# EAGLE library part CR95HF (library BM019)
13.56-MHz multi-protocol contactless transceiver IC Supply voltage: 2.7...5.5V Interfaces: SPI, UART 27.12MHz crystal oscillator
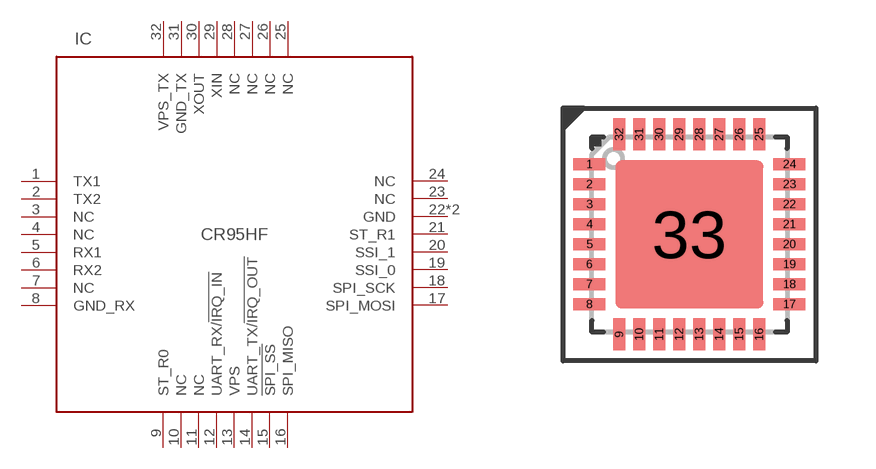
[diagram p0: symbol with the pads of QFN32(5X5); footprint QFN32(5X5)]

Designator prefix IC

## CR95HF  [QFN32(5X5)]
1  TX1
2  TX2
3  NC  nc
4  NC  nc
5  RX1
6  RX2
7  NC  nc
8  GND_RX  pwr
9  ST_R0
10  NC  nc
11  NC  nc
12  UART_RX/!IRQ_IN
13  VPS  pwr
14  UART_TX/!IRQ_OUT
15  !SPI_SS
16  SPI_MISO
17  SPI_MOSI
18  SPI_SCK
19  SSI_0
20  SSI_1
21  ST_R1
22  GND  pwr
23  NC  nc
24  NC  nc
25  NC  nc
26  NC  nc
27  NC  nc
28  NC  nc
29  XIN
30  XOUT
31  GND_TX  pwr
32  VPS_TX  pwr
33  GND  pwr

## Footprint QFN32(5X5) (pad centres in mm)
smd 0.8 x 0.3: 1 -2.5,1.75; 2 -2.5,1.25; 3 -2.5,0.75; 4 -2.5,0.25; 5 -2.5,-0.25; 6 -2.5,-0.75; 7 -2.5,-1.25; 8 -2.5,-1.75; 17 2.5,-1.75; 18 2.5,-1.25; 19 2.5,-0.75; 20 2.5,-0.25; 21 2.5,0.25; 22 2.5,0.75; 23 2.5,1.25; 24 2.5,1.75
smd 0.3 x 0.8: 9 -1.75,-2.5; 10 -1.25,-2.5; 11 -0.75,-2.5; 12 -0.25,-2.5; 13 0.25,-2.5; 14 0.75,-2.5; 15 1.25,-2.5; 16 1.75,-2.5; 25 1.75,2.5; 26 1.25,2.5; 27 0.75,2.5; 28 0.25,2.5; 29 -0.25,2.5; 30 -0.75,2.5; 31 -1.25,2.5; 32 -1.75,2.5
smd 3.7 x 3.7: 33 0,0